# EAGLE library part 737-216 (library con-wago_737)
Serie 737, Dreistock-Klemmenleiste für Leiterplatten Lötstifte für Stockwerk 2 um das 1/2 Rastermaß versetzt / Series 737, Triple-deck PCB terminal strip solder pins for deck 2 staggered by half the pin spacing Polzahl / Pole No.: 16 Rastermaß / Pitch: 5 mm Bemessungsspannung / Rated Voltage: 320 V Nennstrom / Nominal Current: 21 A Leiterquerschnitt / Conductor Size: 0.08 - 2.5 mm² Anschlusstechnik / Connection Technology: CAGE CLAMP® Lötstiftlänge: / Solder Pin Length: 4 mm Leitereinführung (zur Platine) / Conductor entry angle (to PCB): 45 ° Farbe / Color: grau / gray Stand: 01.01.2012. Die jeweils aktuellen Daten zu diesem Artikel finden Sie in unserem Produktkatalog, den Sie unter www.wago.com einsehen können. As of: 01/01/2012. Please find the newest data for this article in our product catalogue, which can be viewed under www.wago.com.
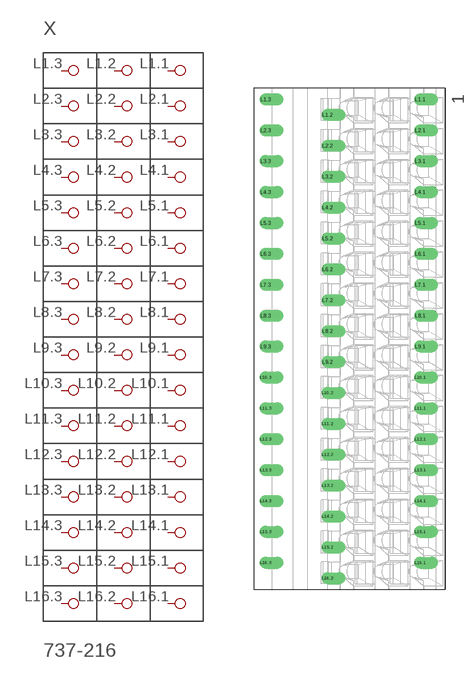
[diagram p14: symbol with the pads of P-737-216; footprint P-737-216]

Designator prefix X

## 737-216  [P-737-216]
L1.1  P1.1
L1.2  P1.2
L1.3  P1.3
L2.1  P2.1
L2.2  P2.2
L2.3  P2.3
L3.1  P3.1
L3.2  P3.2
L3.3  P3.3
L4.1  P4.1
L4.2  P4.2
L4.3  P4.3
L5.1  P5.1
L5.2  P5.2
L5.3  P5.3
L6.1  P6.1
L6.2  P6.2
L6.3  P6.3
L7.1  P7.1
L7.2  P7.2
L7.3  P7.3
L8.1  P8.1
L8.2  P8.2
L8.3  P8.3
L9.1  P9.1
L9.2  P9.2
L9.3  P9.3
L10.1  P10.1
L10.2  P10.2
L10.3  P10.3
L11.1  P11.1
L11.2  P11.2
L11.3  P11.3
L12.1  P12.1
L12.2  P12.2
L12.3  P12.3
L13.1  P13.1
L13.2  P13.2
L13.3  P13.3
L14.1  P14.1
L14.2  P14.2
L14.3  P14.3
L15.1  P15.1
L15.2  P15.2
L15.3  P15.3
L16.1  P16.1
L16.2  P16.2
L16.3  P16.3

## Footprint P-737-216 (pad centres in mm)
drill 1.3 offset: L1.1 11.4,38.75; L1.2 -3.6,36.25; L1.3 -13.6,38.75; L2.1 11.4,33.75; L2.2 -3.6,31.25; L2.3 -13.6,33.75; L3.1 11.4,28.75; L3.2 -3.6,26.25; L3.3 -13.6,28.75; L4.1 11.4,23.75; L4.2 -3.6,21.25; L4.3 -13.6,23.75; L5.1 11.4,18.75; L5.2 -3.6,16.25; L5.3 -13.6,18.75; L6.1 11.4,13.75; L6.2 -3.6,11.25; L6.3 -13.6,13.75; L7.1 11.4,8.75; L7.2 -3.6,6.25; L7.3 -13.6,8.75; L8.1 11.4,3.75; L8.2 -3.6,1.25; L8.3 -13.6,3.75; L9.1 11.4,-1.25; L9.2 -3.6,-3.75; L9.3 -13.6,-1.25; L10.1 11.4,-6.25; L10.2 -3.6,-8.75; L10.3 -13.6,-6.25; L11.1 11.4,-11.25; L11.2 -3.6,-13.75; L11.3 -13.6,-11.25; L12.1 11.4,-16.25; L12.2 -3.6,-18.75; L12.3 -13.6,-16.25; L13.1 11.4,-21.25; L13.2 -3.6,-23.75; L13.3 -13.6,-21.25; L14.1 11.4,-26.25; L14.2 -3.6,-28.75; L14.3 -13.6,-26.25; L15.1 11.4,-31.25; L15.2 -3.6,-33.75; L15.3 -13.6,-31.25; L16.1 11.4,-36.25; L16.2 -3.6,-38.75; L16.3 -13.6,-36.25